# Altium integrated library Integrated_Library.IntLib: 8 symbols
Pins are listed as number, name and electrical type; pins without a type are passive.

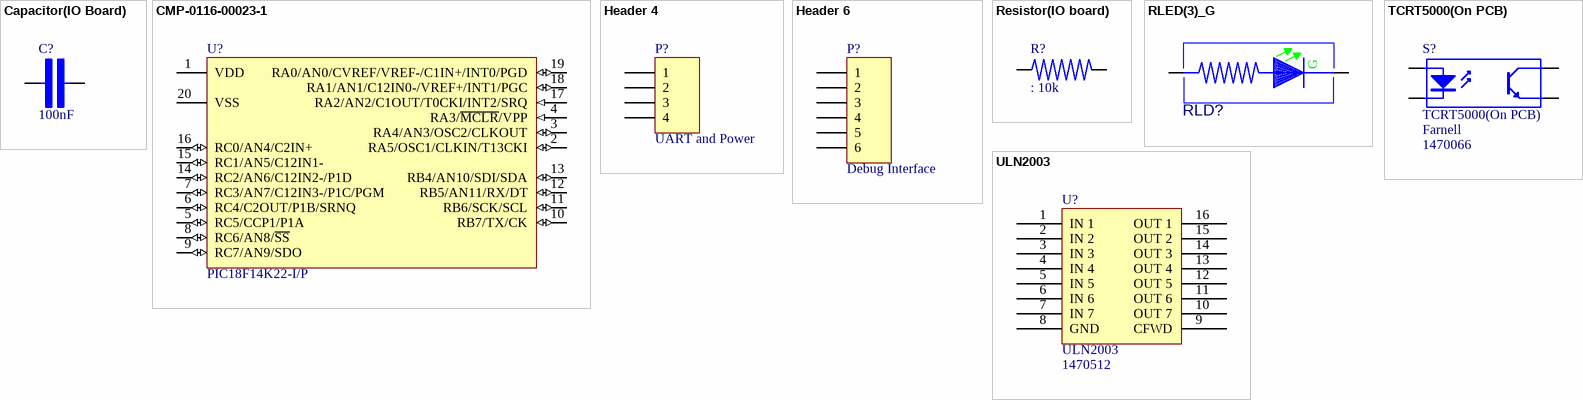
[diagram p0: symbols Capacitor(IO Board) to ULN2003]

## Capacitor(IO Board)
designator C?, comment 100nF
Capacitor 100nF; Supplier: *; Part Number: *
footprint CAPACITOR_100NF_TH
pins: 1, 2

## CMP-0116-00023-1
designator U?, comment PIC18F14K22-I/P
Flash Microcontroller with nanoWatt XLP Technology, 20-pin PDIP, Industrial Temperature; PackageVersion: revBB, Aug-2009; PackageDescription: 20-Lead Plastic Dual In-Line (P) - 300 mil Body [PDIP]; PackageReference: PDIP300-P20; DatasheetVersion: revC, Oct-2009
footprint PDIP300-P20 (DIP, 20-Leads, Row Spacing 7.62mm, Pitch 2.54mm, Body 25.9x6.6mm)
pins: 1 VDD (power), 2 RA5/OSC1/CLKIN/T13CKI (io), 3 RA4/AN3/OSC2/CLKOUT (io), 4 RA3/~{MCLR}/VPP (in), 5 RC5/CCP1/P1A (io), 6 RC4/C2OUT/P1B/SRNQ (io), 7 RC3/AN7/C12IN3-/P1C/PGM (io), 8 RC6/AN8/~{SS} (io), 9 RC7/AN9/SDO (io), 10 RB7/TX/CK (io), 11 RB6/SCK/SCL (io), 12 RB5/AN11/RX/DT (io), 13 RB4/AN10/SDI/SDA (io), 14 RC2/AN6/C12IN2-/P1D (io), 15 RC1/AN5/C12IN1- (io), 16 RC0/AN4/C2IN+ (io), 17 RA2/AN2/C1OUT/T0CKI/INT2/SRQ (in), 18 RA1/AN1/C12IN0-/VREF+/INT1/PGC (io), 19 RA0/AN0/CVREF/VREF-/C1IN+/INT0/PGD (io), 20 VSS (power)

## Header 4
designator P?, comment UART and Power
Header, 4-Pin; LatestRevisionDate: 17-Jul-2002; LatestRevisionNote: Re-released for DXP Platform.; Publisher: Altium Limited
footprint HDH1X4 (HEADER 4-WAY)
pins: 1, 2, 3, 4

## Header 6
designator P?, comment Debug Interface
Header, 6-Pin; LatestRevisionDate: 17-Jul-2002; LatestRevisionNote: Re-released for DXP Platform.; Publisher: Altium Limited
footprint PROGRAMMING-HEADER-MICRO
pins: 1, 2, 3, 4, 5, 6

## Resistor(IO board)
designator R?, comment Resistor (IO board)  (value not drawn)
Resistor (SFR25); Supplier: *; Part Number: *
footprint RESISTOR_10K_TH_QW
pins: 1, 2
text: 10k

## RLED(3)_G
designator RLD?, comment L-934GD-5V  (value not drawn)
Light Emitting Diode with integral resistor (5V); Part Number: 228-5499; Supplier: RS
footprint RAD_D10(12)
footprint LED_Green_3mm_TH (LED Green 3mm through hole from micro project)
pins: 1 A, 2 K
text: G

## TCRT5000(On PCB)
designator S?  Supplier 1: Farnell  Supplier Part Number 1: 1470066
4-Pin Phototransistor Optocoupler; Published: 24-Mar-1999; LatestRevisionDate: 04-Mar-2005; LatestRevisionNote: Sch pins 3 & 4 Swapped.; DatasheetVersion: Nov-2003; PackageReference: DIP-4; Publisher: Altium Limited
footprint TCRT5000 Breakout; pin to pad 1>2 2>7 3>6 4>3
pins: 1 A "Anode", 2 K "Cathode", 3 E "Emitter", 4 C "Collector"

## ULN2003
designator U?  Supplier Part Number 1: 1470512
Darlington Transistor Array; Supplier 1: Farnell
footprint DILP-16(300) - 3D
pins: 1 IN 1, 2 IN 2, 3 IN 3, 4 IN 4, 5 IN 5, 6 IN 6, 7 IN 7, 8 GND, 9 CFWD, 10 OUT 7, 11 OUT 6, 12 OUT 5, 13 OUT 4, 14 OUT 3, 15 OUT 2, 16 OUT 1